# Altium integrated library AD Analog Multiplier Divider.IntLib: 63 symbols (part 1 of 2)
Pins are listed as number, name and electrical type; pins without a type are passive.

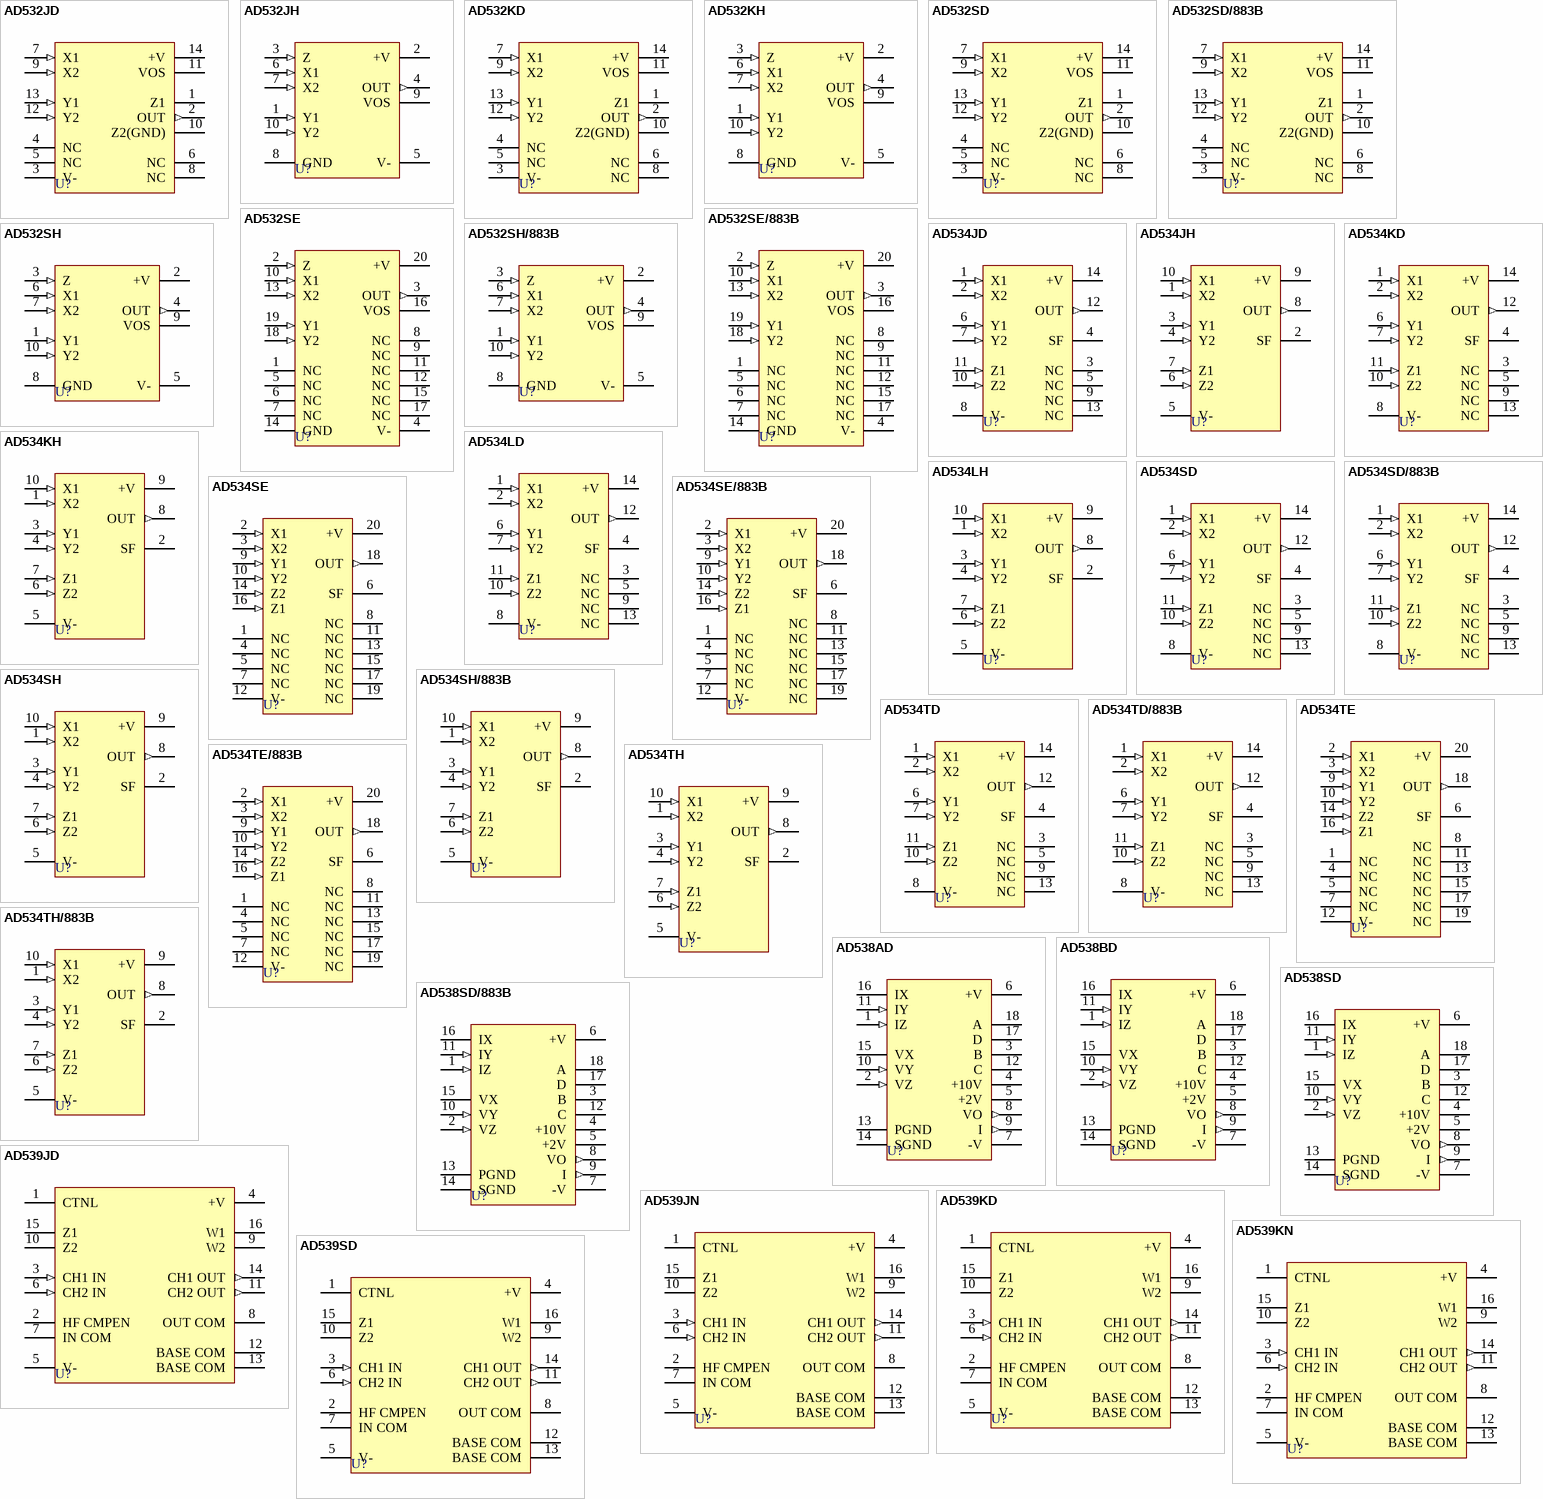
[diagram p0: symbols AD532JD to AD539SD]

## AD532JD
designator U?
Internally Trimmed IC Multiplier; Note: Pins 4, 5, 6 and 8 are not connected; Published: 8-Jun-2000; LatestRevisionDate: 04-Mar-2005; LatestRevisionNote: Stylized 3D Model Added.; DatasheetVersion: REV.A 1996; PackageReference: D-14; Publisher: Altium Limited; PackageDescription: DIP; 14 Leads; Row Spacing 7.62 mm; Pitch 2.54 mm; ComponentLink1Description: Manufacturer Link; ComponentLink1URL: http://www.analog.com/en/prod/0%2C2877%2CAD532%2C00.html; ComponentLink2Description: Datasheet; ComponentLink2URL: http://www.analog.com/UploadedFiles/Data_Sheets/417213471AD532_c.pdf
footprint D-14 (DIP; 14 Leads; Row Spacing 7.62 mm; Pitch 2.54 mm)
3D model D-14 (DIP; 14 Leads; Row Spacing 7.62 mm; Pitch 2.54 mm)
pins: 1 Z1, 2 OUT (out), 3 V- (power), 4 NC, 5 NC, 6 NC, 7 X1 (in), 8 NC, 9 X2 (in), 10 Z2(GND), 11 VOS, 12 Y2 (in), 13 Y1 (in), 14 +V (power)

## AD532JH
designator U?
Internally Trimmed IC Multiplier; Published: 8-Jun-2000; LatestRevisionDate: 17-Jul-2002; LatestRevisionNote: Re-released for DXP Platform.; DatasheetVersion: REV.A 1996; PackageReference: H-10A; Publisher: Altium Limited; PackageDescription: Can; 10 Leads; Pin Circle Dia. 5.84 mm; Lead Dia. 0.53 mm (max); Code_JEDEC: TO-100; ComponentLink1Description: Manufacturer Link; ComponentLink1URL: http://www.analog.com/en/prod/0%2C2877%2CAD532%2C00.html; ComponentLink2Description: Datasheet; ComponentLink2URL: http://www.analog.com/UploadedFiles/Data_Sheets/417213471AD532_c.pdf
footprint H-10A (Can; 10 Leads; Pin Circle Dia. 5.84 mm; Lead Dia. 0.53 mm (max))
pins: 1 Y1 (in), 2 +V (power), 3 Z (in), 4 OUT (out), 5 V- (power), 6 X1 (in), 7 X2 (in), 8 GND (power), 9 VOS, 10 Y2 (in)

## AD532KD
designator U?
Internally Trimmed IC Multiplier; Note: Pins 4, 5, 6 and 8 are not connected; Published: 8-Jun-2000; LatestRevisionDate: 04-Mar-2005; LatestRevisionNote: Stylized 3D Model Added.; DatasheetVersion: REV.A 1996; PackageReference: D-14; Publisher: Altium Limited; PackageDescription: DIP; 14 Leads; Row Spacing 7.62 mm; Pitch 2.54 mm; ComponentLink1Description: Manufacturer Link; ComponentLink1URL: http://www.analog.com/en/prod/0%2C2877%2CAD532%2C00.html; ComponentLink2Description: Datasheet; ComponentLink2URL: http://www.analog.com/UploadedFiles/Data_Sheets/417213471AD532_c.pdf
footprint D-14 (DIP; 14 Leads; Row Spacing 7.62 mm; Pitch 2.54 mm)
3D model D-14 (DIP; 14 Leads; Row Spacing 7.62 mm; Pitch 2.54 mm)
pins: 1 Z1, 2 OUT (out), 3 V- (power), 4 NC, 5 NC, 6 NC, 7 X1 (in), 8 NC, 9 X2 (in), 10 Z2(GND), 11 VOS, 12 Y2 (in), 13 Y1 (in), 14 +V (power)

## AD532KH
designator U?
Internally Trimmed IC Multiplier; Published: 8-Jun-2000; LatestRevisionDate: 17-Jul-2002; LatestRevisionNote: Re-released for DXP Platform.; DatasheetVersion: REV.A 1996; PackageReference: H-10A; Publisher: Altium Limited; PackageDescription: Can; 10 Leads; Pin Circle Dia. 5.84 mm; Lead Dia. 0.53 mm (max); Code_JEDEC: TO-100; ComponentLink1Description: Manufacturer Link; ComponentLink1URL: http://www.analog.com/en/prod/0%2C2877%2CAD532%2C00.html; ComponentLink2Description: Datasheet; ComponentLink2URL: http://www.analog.com/UploadedFiles/Data_Sheets/417213471AD532_c.pdf
footprint H-10A (Can; 10 Leads; Pin Circle Dia. 5.84 mm; Lead Dia. 0.53 mm (max))
pins: 1 Y1 (in), 2 +V (power), 3 Z (in), 4 OUT (out), 5 V- (power), 6 X1 (in), 7 X2 (in), 8 GND (power), 9 VOS, 10 Y2 (in)

## AD532SD
designator U?
Internally Trimmed IC Multiplier; Note: Pins 4, 5, 6 and 8 are not connected; Published: 8-Jun-2000; LatestRevisionDate: 04-Mar-2005; LatestRevisionNote: Stylized 3D Model Added.; DatasheetVersion: REV.A 1996; PackageReference: D-14; Publisher: Altium Limited; PackageDescription: DIP; 14 Leads; Row Spacing 7.62 mm; Pitch 2.54 mm; ComponentLink1Description: Manufacturer Link; ComponentLink1URL: http://www.analog.com/en/prod/0%2C2877%2CAD532%2C00.html; ComponentLink2Description: Datasheet; ComponentLink2URL: http://www.analog.com/UploadedFiles/Data_Sheets/417213471AD532_c.pdf
footprint D-14 (DIP; 14 Leads; Row Spacing 7.62 mm; Pitch 2.54 mm)
3D model D-14 (DIP; 14 Leads; Row Spacing 7.62 mm; Pitch 2.54 mm)
pins: 1 Z1, 2 OUT (out), 3 V- (power), 4 NC, 5 NC, 6 NC, 7 X1 (in), 8 NC, 9 X2 (in), 10 Z2(GND), 11 VOS, 12 Y2 (in), 13 Y1 (in), 14 +V (power)

## AD532SD/883B
designator U?
Internally Trimmed IC Multiplier; Note: Pins 4, 5, 6 and 8 are not connected; Published: 8-Jun-2000; LatestRevisionDate: 04-Mar-2005; LatestRevisionNote: Stylized 3D Model Added.; DatasheetVersion: REV.A 1996; PackageReference: D-14; Publisher: Altium Limited; PackageDescription: DIP; 14 Leads; Row Spacing 7.62 mm; Pitch 2.54 mm; ComponentLink1Description: Manufacturer Link; ComponentLink1URL: http://www.analog.com/en/prod/0%2C2877%2CAD532%2C00.html; ComponentLink2Description: Datasheet; ComponentLink2URL: http://www.analog.com/UploadedFiles/Data_Sheets/417213471AD532_c.pdf
footprint D-14 (DIP; 14 Leads; Row Spacing 7.62 mm; Pitch 2.54 mm)
3D model D-14 (DIP; 14 Leads; Row Spacing 7.62 mm; Pitch 2.54 mm)
pins: 1 Z1, 2 OUT (out), 3 V- (power), 4 NC, 5 NC, 6 NC, 7 X1 (in), 8 NC, 9 X2 (in), 10 Z2(GND), 11 VOS, 12 Y2 (in), 13 Y1 (in), 14 +V (power)

## AD532SE
designator U?
Internally Trimmed IC Multiplier; Note: Pins 1, 5, 6, 7, 8, 9, 11, 12, 15 and 17 are not connected; Published: 8-Jun-2000; LatestRevisionDate: 17-Jul-2002; LatestRevisionNote: Re-released for DXP Platform.; DatasheetVersion: REV.A 1996; PackageReference: E-20A; Publisher: Altium Limited; PackageDescription: Leadless Chip Carrier; 20 Terminals; Body 8.9 x 8.9 mm; ComponentLink1Description: Manufacturer Link; ComponentLink1URL: http://www.analog.com/en/prod/0%2C2877%2CAD532%2C00.html; ComponentLink2Description: Datasheet; ComponentLink2URL: http://www.analog.com/UploadedFiles/Data_Sheets/417213471AD532_c.pdf
footprint E-20A (Leadless Chip Carrier; 20 Terminals; Body 8.9 x 8.9 mm)
pins: 1 NC, 2 Z (in), 3 OUT (out), 4 V- (power), 5 NC, 6 NC, 7 NC, 8 NC, 9 NC, 10 X1 (in), 11 NC, 12 NC, 13 X2 (in), 14 GND (power), 15 NC, 16 VOS, 17 NC, 18 Y2 (in), 19 Y1 (in), 20 +V (power)

## AD532SE/883B
designator U?
Internally Trimmed IC Multiplier; Note: Pins 1, 5, 6, 7, 8, 9, 11, 12, 15 and 17 are not connected; Published: 8-Jun-2000; LatestRevisionDate: 17-Jul-2002; LatestRevisionNote: Re-released for DXP Platform.; DatasheetVersion: REV.A 1996; PackageReference: E-20A; Publisher: Altium Limited; PackageDescription: Leadless Chip Carrier; 20 Terminals; Body 8.9 x 8.9 mm; ComponentLink1Description: Manufacturer Link; ComponentLink1URL: http://www.analog.com/en/prod/0%2C2877%2CAD532%2C00.html; ComponentLink2Description: Datasheet; ComponentLink2URL: http://www.analog.com/UploadedFiles/Data_Sheets/417213471AD532_c.pdf
footprint E-20A (Leadless Chip Carrier; 20 Terminals; Body 8.9 x 8.9 mm)
pins: 1 NC, 2 Z (in), 3 OUT (out), 4 V- (power), 5 NC, 6 NC, 7 NC, 8 NC, 9 NC, 10 X1 (in), 11 NC, 12 NC, 13 X2 (in), 14 GND (power), 15 NC, 16 VOS, 17 NC, 18 Y2 (in), 19 Y1 (in), 20 +V (power)

## AD532SH
designator U?
Internally Trimmed IC Multiplier; Published: 8-Jun-2000; LatestRevisionDate: 17-Jul-2002; LatestRevisionNote: Re-released for DXP Platform.; DatasheetVersion: REV.A 1996; PackageReference: H-10A; Publisher: Altium Limited; PackageDescription: Can; 10 Leads; Pin Circle Dia. 5.84 mm; Lead Dia. 0.53 mm (max); Code_JEDEC: TO-100; ComponentLink1Description: Manufacturer Link; ComponentLink1URL: http://www.analog.com/en/prod/0%2C2877%2CAD532%2C00.html; ComponentLink2Description: Datasheet; ComponentLink2URL: http://www.analog.com/UploadedFiles/Data_Sheets/417213471AD532_c.pdf
footprint H-10A (Can; 10 Leads; Pin Circle Dia. 5.84 mm; Lead Dia. 0.53 mm (max))
pins: 1 Y1 (in), 2 +V (power), 3 Z (in), 4 OUT (out), 5 V- (power), 6 X1 (in), 7 X2 (in), 8 GND (power), 9 VOS, 10 Y2 (in)

## AD532SH/883B
designator U?
Internally Trimmed IC Multiplier; Published: 8-Jun-2000; LatestRevisionDate: 17-Jul-2002; LatestRevisionNote: Re-released for DXP Platform.; DatasheetVersion: REV.A 1996; PackageReference: H-10A; Publisher: Altium Limited; PackageDescription: Can; 10 Leads; Pin Circle Dia. 5.84 mm; Lead Dia. 0.53 mm (max); Code_JEDEC: TO-100; ComponentLink1Description: Manufacturer Link; ComponentLink1URL: http://www.analog.com/en/prod/0%2C2877%2CAD532%2C00.html; ComponentLink2Description: Datasheet; ComponentLink2URL: http://www.analog.com/UploadedFiles/Data_Sheets/417213471AD532_c.pdf
footprint H-10A (Can; 10 Leads; Pin Circle Dia. 5.84 mm; Lead Dia. 0.53 mm (max))
pins: 1 Y1 (in), 2 +V (power), 3 Z (in), 4 OUT (out), 5 V- (power), 6 X1 (in), 7 X2 (in), 8 GND (power), 9 VOS, 10 Y2 (in)

## AD534JD
designator U?
Internally Trimmed Precision IC Multiplier; Note: Pins 3, 5, 9 and 13 are not connected; Published: 8-Jun-2000; LatestRevisionDate: 04-Mar-2005; LatestRevisionNote: Stylized 3D Model Added.; DatasheetVersion: REV.A 1998; PackageVersion: revA; PackageReference: D-14_A; Publisher: Altium Limited; PackageDescription: DIP; 14 Leads; Row Spacing 7.62 mm; Pitch 2.54 mm; ComponentLink1Description: Manufacturer Link; ComponentLink1URL: http://www.analog.com/en/prod/0%2C2877%2CAD534%2C00.html; ComponentLink2Description: Datasheet; ComponentLink2URL: http://www.analog.com/UploadedFiles/Data_Sheets/142828039AD534_b.pdf
footprint D-14_A (DIP; 14 Leads; Row Spacing 7.62 mm; Pitch 2.54 mm)
3D model D-14A (DIP; 14 Leads; Row Spacing 7.62 mm; Pitch 2.54 mm)
pins: 1 X1 (in), 2 X2 (in), 3 NC, 4 SF, 5 NC, 6 Y1 (in), 7 Y2 (in), 8 V- (power), 9 NC, 10 Z2 (in), 11 Z1 (in), 12 OUT (out), 13 NC, 14 +V (power)

## AD534JH
designator U?
Internally Trimmed Precision IC Multiplier; Published: 8-Jun-2000; LatestRevisionDate: 17-Jul-2002; LatestRevisionNote: Re-released for DXP Platform.; DatasheetVersion: REV.A 1998; PackageReference: H-10A; Publisher: Altium Limited; PackageDescription: Can; 10 Leads; Pin Circle Dia. 5.84 mm; Lead Dia. 0.53 mm (max); Code_JEDEC: TO-100; ComponentLink1Description: Manufacturer Link; ComponentLink1URL: http://www.analog.com/en/prod/0%2C2877%2CAD534%2C00.html; ComponentLink2Description: Datasheet; ComponentLink2URL: http://www.analog.com/UploadedFiles/Data_Sheets/142828039AD534_b.pdf
footprint H-10A (Can; 10 Leads; Pin Circle Dia. 5.84 mm; Lead Dia. 0.53 mm (max))
pins: 1 X2 (in), 2 SF, 3 Y1 (in), 4 Y2 (in), 5 V- (power), 6 Z2 (in), 7 Z1 (in), 8 OUT (out), 9 +V (power), 10 X1 (in)

## AD534KD
designator U?
Internally Trimmed Precision IC Multiplier; Note: Pins 3, 5, 9 and 13 are not connected; Published: 8-Jun-2000; LatestRevisionDate: 04-Mar-2005; LatestRevisionNote: Stylized 3D Model Added.; DatasheetVersion: REV.A 1998; PackageVersion: revA; PackageReference: D-14_A; Publisher: Altium Limited; PackageDescription: DIP; 14 Leads; Row Spacing 7.62 mm; Pitch 2.54 mm; ComponentLink1Description: Manufacturer Link; ComponentLink1URL: http://www.analog.com/en/prod/0%2C2877%2CAD534%2C00.html; ComponentLink2Description: Datasheet; ComponentLink2URL: http://www.analog.com/UploadedFiles/Data_Sheets/142828039AD534_b.pdf
footprint D-14_A (DIP; 14 Leads; Row Spacing 7.62 mm; Pitch 2.54 mm)
3D model D-14A (DIP; 14 Leads; Row Spacing 7.62 mm; Pitch 2.54 mm)
pins: 1 X1 (in), 2 X2 (in), 3 NC, 4 SF, 5 NC, 6 Y1 (in), 7 Y2 (in), 8 V- (power), 9 NC, 10 Z2 (in), 11 Z1 (in), 12 OUT (out), 13 NC, 14 +V (power)

## AD534KH
designator U?
Internally Trimmed Precision IC Multiplier; Published: 8-Jun-2000; LatestRevisionDate: 17-Jul-2002; LatestRevisionNote: Re-released for DXP Platform.; DatasheetVersion: REV.A 1998; PackageReference: H-10A; Publisher: Altium Limited; PackageDescription: Can; 10 Leads; Pin Circle Dia. 5.84 mm; Lead Dia. 0.53 mm (max); Code_JEDEC: TO-100; ComponentLink1Description: Manufacturer Link; ComponentLink1URL: http://www.analog.com/en/prod/0%2C2877%2CAD534%2C00.html; ComponentLink2Description: Datasheet; ComponentLink2URL: http://www.analog.com/UploadedFiles/Data_Sheets/142828039AD534_b.pdf
footprint H-10A (Can; 10 Leads; Pin Circle Dia. 5.84 mm; Lead Dia. 0.53 mm (max))
pins: 1 X2 (in), 2 SF, 3 Y1 (in), 4 Y2 (in), 5 V- (power), 6 Z2 (in), 7 Z1 (in), 8 OUT (out), 9 +V (power), 10 X1 (in)

## AD534LD
designator U?
Internally Trimmed Precision IC Multiplier; Note: Pins 3, 5, 9 and 13 are not connected; Published: 8-Jun-2000; LatestRevisionDate: 04-Mar-2005; LatestRevisionNote: Stylized 3D Model Added.; DatasheetVersion: REV.A 1998; PackageVersion: revA; PackageReference: D-14_A; Publisher: Altium Limited; PackageDescription: DIP; 14 Leads; Row Spacing 7.62 mm; Pitch 2.54 mm; ComponentLink1Description: Manufacturer Link; ComponentLink1URL: http://www.analog.com/en/prod/0%2C2877%2CAD534%2C00.html; ComponentLink2Description: Datasheet; ComponentLink2URL: http://www.analog.com/UploadedFiles/Data_Sheets/142828039AD534_b.pdf
footprint D-14_A (DIP; 14 Leads; Row Spacing 7.62 mm; Pitch 2.54 mm)
3D model D-14A (DIP; 14 Leads; Row Spacing 7.62 mm; Pitch 2.54 mm)
pins: 1 X1 (in), 2 X2 (in), 3 NC, 4 SF, 5 NC, 6 Y1 (in), 7 Y2 (in), 8 V- (power), 9 NC, 10 Z2 (in), 11 Z1 (in), 12 OUT (out), 13 NC, 14 +V (power)

## AD534LH
designator U?
Internally Trimmed Precision IC Multiplier; Published: 8-Jun-2000; LatestRevisionDate: 17-Jul-2002; LatestRevisionNote: Re-released for DXP Platform.; DatasheetVersion: REV.A 1998; PackageReference: H-10A; Publisher: Altium Limited; PackageDescription: Can; 10 Leads; Pin Circle Dia. 5.84 mm; Lead Dia. 0.53 mm (max); Code_JEDEC: TO-100; ComponentLink1Description: Manufacturer Link; ComponentLink1URL: http://www.analog.com/en/prod/0%2C2877%2CAD534%2C00.html; ComponentLink2Description: Datasheet; ComponentLink2URL: http://www.analog.com/UploadedFiles/Data_Sheets/142828039AD534_b.pdf
footprint H-10A (Can; 10 Leads; Pin Circle Dia. 5.84 mm; Lead Dia. 0.53 mm (max))
pins: 1 X2 (in), 2 SF, 3 Y1 (in), 4 Y2 (in), 5 V- (power), 6 Z2 (in), 7 Z1 (in), 8 OUT (out), 9 +V (power), 10 X1 (in)

## AD534SD
designator U?
Internally Trimmed Precision IC Multiplier; Note: Pins 3, 5, 9 and 13 are not connected; Published: 8-Jun-2000; LatestRevisionDate: 04-Mar-2005; LatestRevisionNote: Stylized 3D Model Added.; DatasheetVersion: REV.A 1998; PackageVersion: revA; PackageReference: D-14_A; Publisher: Altium Limited; PackageDescription: DIP; 14 Leads; Row Spacing 7.62 mm; Pitch 2.54 mm; ComponentLink1Description: Manufacturer Link; ComponentLink1URL: http://www.analog.com/en/prod/0%2C2877%2CAD534%2C00.html; ComponentLink2Description: Datasheet; ComponentLink2URL: http://www.analog.com/UploadedFiles/Data_Sheets/142828039AD534_b.pdf
footprint D-14_A (DIP; 14 Leads; Row Spacing 7.62 mm; Pitch 2.54 mm)
3D model D-14A (DIP; 14 Leads; Row Spacing 7.62 mm; Pitch 2.54 mm)
pins: 1 X1 (in), 2 X2 (in), 3 NC, 4 SF, 5 NC, 6 Y1 (in), 7 Y2 (in), 8 V- (power), 9 NC, 10 Z2 (in), 11 Z1 (in), 12 OUT (out), 13 NC, 14 +V (power)

## AD534SD/883B
designator U?
Internally Trimmed Precision IC Multiplier; Note: Pins 3, 5, 9 and 13 are not connected; Published: 8-Jun-2000; LatestRevisionDate: 04-Mar-2005; LatestRevisionNote: Stylized 3D Model Added.; DatasheetVersion: REV.A 1998; PackageVersion: revA; PackageReference: D-14_A; Publisher: Altium Limited; PackageDescription: DIP; 14 Leads; Row Spacing 7.62 mm; Pitch 2.54 mm; ComponentLink1Description: Manufacturer Link; ComponentLink1URL: http://www.analog.com/en/prod/0%2C2877%2CAD534%2C00.html; ComponentLink2Description: Datasheet; ComponentLink2URL: http://www.analog.com/UploadedFiles/Data_Sheets/142828039AD534_b.pdf
footprint D-14_A (DIP; 14 Leads; Row Spacing 7.62 mm; Pitch 2.54 mm)
3D model D-14A (DIP; 14 Leads; Row Spacing 7.62 mm; Pitch 2.54 mm)
pins: 1 X1 (in), 2 X2 (in), 3 NC, 4 SF, 5 NC, 6 Y1 (in), 7 Y2 (in), 8 V- (power), 9 NC, 10 Z2 (in), 11 Z1 (in), 12 OUT (out), 13 NC, 14 +V (power)

## AD534SE
designator U?
Internally Trimmed Precision IC Multiplier; Note: Pins 1, 4, 5, 7, 8, 11, 13, 15, 17 and 19 are not connected; Published: 8-Jun-2000; LatestRevisionDate: 17-Jul-2002; LatestRevisionNote: Re-released for DXP Platform.; DatasheetVersion: REV.A 1998; PackageReference: E-20A; Publisher: Altium Limited; PackageDescription: Leadless Chip Carrier; 20 Terminals; Body 8.9 x 8.9 mm; ComponentLink1Description: Manufacturer Link; ComponentLink1URL: http://www.analog.com/en/prod/0%2C2877%2CAD534%2C00.html; ComponentLink2Description: Datasheet; ComponentLink2URL: http://www.analog.com/UploadedFiles/Data_Sheets/142828039AD534_b.pdf
footprint E-20A (Leadless Chip Carrier; 20 Terminals; Body 8.9 x 8.9 mm)
pins: 1 NC, 2 X1 (in), 3 X2 (in), 4 NC, 5 NC, 6 SF, 7 NC, 8 NC, 9 Y1 (in), 10 Y2 (in), 11 NC, 12 V- (power), 13 NC, 14 Z2 (in), 15 NC, 16 Z1 (in), 17 NC, 18 OUT (out), 19 NC, 20 +V (power)

## AD534SE/883B
designator U?
Internally Trimmed Precision IC Multiplier; Note: Pins 1, 4, 5, 7, 8, 11, 13, 15, 17 and 19 are not connected; Published: 8-Jun-2000; LatestRevisionDate: 17-Jul-2002; LatestRevisionNote: Re-released for DXP Platform.; DatasheetVersion: REV.A 1998; PackageReference: E-20A; Publisher: Altium Limited; PackageDescription: Leadless Chip Carrier; 20 Terminals; Body 8.9 x 8.9 mm; ComponentLink1Description: Manufacturer Link; ComponentLink1URL: http://www.analog.com/en/prod/0%2C2877%2CAD534%2C00.html; ComponentLink2Description: Datasheet; ComponentLink2URL: http://www.analog.com/UploadedFiles/Data_Sheets/142828039AD534_b.pdf
footprint E-20A (Leadless Chip Carrier; 20 Terminals; Body 8.9 x 8.9 mm)
pins: 1 NC, 2 X1 (in), 3 X2 (in), 4 NC, 5 NC, 6 SF, 7 NC, 8 NC, 9 Y1 (in), 10 Y2 (in), 11 NC, 12 V- (power), 13 NC, 14 Z2 (in), 15 NC, 16 Z1 (in), 17 NC, 18 OUT (out), 19 NC, 20 +V (power)

## AD534SH
designator U?
Internally Trimmed Precision IC Multiplier; Published: 8-Jun-2000; LatestRevisionDate: 17-Jul-2002; LatestRevisionNote: Re-released for DXP Platform.; DatasheetVersion: REV.A 1998; PackageReference: H-10A; Publisher: Altium Limited; PackageDescription: Can; 10 Leads; Pin Circle Dia. 5.84 mm; Lead Dia. 0.53 mm (max); Code_JEDEC: TO-100; ComponentLink1Description: Manufacturer Link; ComponentLink1URL: http://www.analog.com/en/prod/0%2C2877%2CAD534%2C00.html; ComponentLink2Description: Datasheet; ComponentLink2URL: http://www.analog.com/UploadedFiles/Data_Sheets/142828039AD534_b.pdf
footprint H-10A (Can; 10 Leads; Pin Circle Dia. 5.84 mm; Lead Dia. 0.53 mm (max))
pins: 1 X2 (in), 2 SF, 3 Y1 (in), 4 Y2 (in), 5 V- (power), 6 Z2 (in), 7 Z1 (in), 8 OUT (out), 9 +V (power), 10 X1 (in)

## AD534SH/883B
designator U?
Internally Trimmed Precision IC Multiplier; Published: 8-Jun-2000; LatestRevisionDate: 17-Jul-2002; LatestRevisionNote: Re-released for DXP Platform.; DatasheetVersion: REV.A 1998; PackageReference: H-10A; Publisher: Altium Limited; PackageDescription: Can; 10 Leads; Pin Circle Dia. 5.84 mm; Lead Dia. 0.53 mm (max); Code_JEDEC: TO-100; ComponentLink1Description: Manufacturer Link; ComponentLink1URL: http://www.analog.com/en/prod/0%2C2877%2CAD534%2C00.html; ComponentLink2Description: Datasheet; ComponentLink2URL: http://www.analog.com/UploadedFiles/Data_Sheets/142828039AD534_b.pdf
footprint H-10A (Can; 10 Leads; Pin Circle Dia. 5.84 mm; Lead Dia. 0.53 mm (max))
pins: 1 X2 (in), 2 SF, 3 Y1 (in), 4 Y2 (in), 5 V- (power), 6 Z2 (in), 7 Z1 (in), 8 OUT (out), 9 +V (power), 10 X1 (in)

## AD534TD
designator U?
Internally Trimmed Precision IC Multiplier; Note: Pins 3, 5, 9 and 13 are not connected; Published: 8-Jun-2000; LatestRevisionDate: 04-Mar-2005; LatestRevisionNote: Stylized 3D Model Added.; DatasheetVersion: REV.A 1998; PackageVersion: revA; PackageReference: D-14_A; Publisher: Altium Limited; PackageDescription: DIP; 14 Leads; Row Spacing 7.62 mm; Pitch 2.54 mm; ComponentLink1Description: Manufacturer Link; ComponentLink1URL: http://www.analog.com/en/prod/0%2C2877%2CAD534%2C00.html; ComponentLink2Description: Datasheet; ComponentLink2URL: http://www.analog.com/UploadedFiles/Data_Sheets/142828039AD534_b.pdf
footprint D-14_A (DIP; 14 Leads; Row Spacing 7.62 mm; Pitch 2.54 mm)
3D model D-14A (DIP; 14 Leads; Row Spacing 7.62 mm; Pitch 2.54 mm)
pins: 1 X1 (in), 2 X2 (in), 3 NC, 4 SF, 5 NC, 6 Y1 (in), 7 Y2 (in), 8 V- (power), 9 NC, 10 Z2 (in), 11 Z1 (in), 12 OUT (out), 13 NC, 14 +V (power)

## AD534TD/883B
designator U?
Internally Trimmed Precision IC Multiplier; Note: Pins 3, 5, 9 and 13 are not connected; Published: 8-Jun-2000; LatestRevisionDate: 04-Mar-2005; LatestRevisionNote: Stylized 3D Model Added.; DatasheetVersion: REV.A 1998; PackageVersion: revA; PackageReference: D-14_A; Publisher: Altium Limited; PackageDescription: DIP; 14 Leads; Row Spacing 7.62 mm; Pitch 2.54 mm; ComponentLink1Description: Manufacturer Link; ComponentLink1URL: http://www.analog.com/en/prod/0%2C2877%2CAD534%2C00.html; ComponentLink2Description: Datasheet; ComponentLink2URL: http://www.analog.com/UploadedFiles/Data_Sheets/142828039AD534_b.pdf
footprint D-14_A (DIP; 14 Leads; Row Spacing 7.62 mm; Pitch 2.54 mm)
3D model D-14A (DIP; 14 Leads; Row Spacing 7.62 mm; Pitch 2.54 mm)
pins: 1 X1 (in), 2 X2 (in), 3 NC, 4 SF, 5 NC, 6 Y1 (in), 7 Y2 (in), 8 V- (power), 9 NC, 10 Z2 (in), 11 Z1 (in), 12 OUT (out), 13 NC, 14 +V (power)

## AD534TE
designator U?
Internally Trimmed Precision IC Multiplier; Note: Pins 1, 4, 5, 7, 8, 11, 13, 15, 17 and 19 are not connected; Published: 8-Jun-2000; LatestRevisionDate: 17-Jul-2002; LatestRevisionNote: Re-released for DXP Platform.; DatasheetVersion: REV.A 1998; PackageReference: E-20A; Publisher: Altium Limited; PackageDescription: Leadless Chip Carrier; 20 Terminals; Body 8.9 x 8.9 mm; ComponentLink1Description: Manufacturer Link; ComponentLink1URL: http://www.analog.com/en/prod/0%2C2877%2CAD534%2C00.html; ComponentLink2Description: Datasheet; ComponentLink2URL: http://www.analog.com/UploadedFiles/Data_Sheets/142828039AD534_b.pdf
footprint E-20A (Leadless Chip Carrier; 20 Terminals; Body 8.9 x 8.9 mm)
pins: 1 NC, 2 X1 (in), 3 X2 (in), 4 NC, 5 NC, 6 SF, 7 NC, 8 NC, 9 Y1 (in), 10 Y2 (in), 11 NC, 12 V- (power), 13 NC, 14 Z2 (in), 15 NC, 16 Z1 (in), 17 NC, 18 OUT (out), 19 NC, 20 +V (power)

## AD534TE/883B
designator U?
Internally Trimmed Precision IC Multiplier; Note: Pins 1, 4, 5, 7, 8, 11, 13, 15, 17 and 19 are not connected; Published: 8-Jun-2000; LatestRevisionDate: 17-Jul-2002; LatestRevisionNote: Re-released for DXP Platform.; DatasheetVersion: REV.A 1998; PackageReference: E-20A; Publisher: Altium Limited; PackageDescription: Leadless Chip Carrier; 20 Terminals; Body 8.9 x 8.9 mm; ComponentLink1Description: Manufacturer Link; ComponentLink1URL: http://www.analog.com/en/prod/0%2C2877%2CAD534%2C00.html; ComponentLink2Description: Datasheet; ComponentLink2URL: http://www.analog.com/UploadedFiles/Data_Sheets/142828039AD534_b.pdf
footprint E-20A (Leadless Chip Carrier; 20 Terminals; Body 8.9 x 8.9 mm)
pins: 1 NC, 2 X1 (in), 3 X2 (in), 4 NC, 5 NC, 6 SF, 7 NC, 8 NC, 9 Y1 (in), 10 Y2 (in), 11 NC, 12 V- (power), 13 NC, 14 Z2 (in), 15 NC, 16 Z1 (in), 17 NC, 18 OUT (out), 19 NC, 20 +V (power)

## AD534TH
designator U?
Internally Trimmed Precision IC Multiplier; Published: 8-Jun-2000; LatestRevisionDate: 17-Jul-2002; LatestRevisionNote: Re-released for DXP Platform.; DatasheetVersion: REV.A 1998; PackageReference: H-10A; Publisher: Altium Limited; PackageDescription: Can; 10 Leads; Pin Circle Dia. 5.84 mm; Lead Dia. 0.53 mm (max); Code_JEDEC: TO-100; ComponentLink1Description: Manufacturer Link; ComponentLink1URL: http://www.analog.com/en/prod/0%2C2877%2CAD534%2C00.html; ComponentLink2Description: Datasheet; ComponentLink2URL: http://www.analog.com/UploadedFiles/Data_Sheets/142828039AD534_b.pdf
footprint H-10A (Can; 10 Leads; Pin Circle Dia. 5.84 mm; Lead Dia. 0.53 mm (max))
pins: 1 X2 (in), 2 SF, 3 Y1 (in), 4 Y2 (in), 5 V- (power), 6 Z2 (in), 7 Z1 (in), 8 OUT (out), 9 +V (power), 10 X1 (in)

## AD534TH/883B
designator U?
Internally Trimmed Precision IC Multiplier; Published: 8-Jun-2000; LatestRevisionDate: 17-Jul-2002; LatestRevisionNote: Re-released for DXP Platform.; DatasheetVersion: REV.A 1998; PackageReference: H-10A; Publisher: Altium Limited; PackageDescription: Can; 10 Leads; Pin Circle Dia. 5.84 mm; Lead Dia. 0.53 mm (max); Code_JEDEC: TO-100; ComponentLink1Description: Manufacturer Link; ComponentLink1URL: http://www.analog.com/en/prod/0%2C2877%2CAD534%2C00.html; ComponentLink2Description: Datasheet; ComponentLink2URL: http://www.analog.com/UploadedFiles/Data_Sheets/142828039AD534_b.pdf
footprint H-10A (Can; 10 Leads; Pin Circle Dia. 5.84 mm; Lead Dia. 0.53 mm (max))
pins: 1 X2 (in), 2 SF, 3 Y1 (in), 4 Y2 (in), 5 V- (power), 6 Z2 (in), 7 Z1 (in), 8 OUT (out), 9 +V (power), 10 X1 (in)

## AD538AD
designator U?
Real-Time Analog Computational Unit (ACU); Published: 8-Jun-2000; LatestRevisionDate: 04-Mar-2005; LatestRevisionNote: Stylized 3D Model Added.; DatasheetVersion: REV.A 1992; PackageReference: D-18; Publisher: Altium Limited; PackageDescription: DIP; 18 Leads; Row Spacing 7.62 mm; Pitch 2.54 mm; ComponentLink1Description: Manufacturer Link; ComponentLink1URL: http://www.analog.com/en/prod/0%2C2877%2CAD538%2C00.html; ComponentLink2Description: Datasheet; ComponentLink2URL: http://www.analog.com/UploadedFiles/Data_Sheets/737468486AD538_c.pdf
footprint D-18 (DIP; 18 Leads; Row Spacing 7.62 mm; Pitch 2.54 mm)
3D model D-18 (DIP; 18 Leads; Row Spacing 7.62 mm; Pitch 2.54 mm)
pins: 1 IZ (in), 2 VZ (in), 3 B, 4 +10V, 5 +2V, 6 +V (power), 7 -V (power), 8 VO (out), 9 I (out), 10 VY (in), 11 IY (in), 12 C, 13 PGND (power), 14 SGND (power), 15 VX, 16 IX, 17 D, 18 A

## AD538BD
designator U?
Real-Time Analog Computational Unit (ACU); Published: 8-Jun-2000; LatestRevisionDate: 04-Mar-2005; LatestRevisionNote: Stylized 3D Model Added.; DatasheetVersion: REV.A 1998; PackageVersion: revA; PackageReference: D-18_A; Publisher: Altium Limited; PackageDescription: DIP; 18 Leads; Row Spacing 7.62 mm; Pitch 2.54 mm; ComponentLink1Description: Manufacturer Link; ComponentLink1URL: http://www.analog.com/en/prod/0%2C2877%2CAD538%2C00.html; ComponentLink2Description: Datasheet; ComponentLink2URL: http://www.analog.com/UploadedFiles/Data_Sheets/737468486AD538_c.pdf
footprint D-18_A (DIP; 18 Leads; Row Spacing 7.62 mm; Pitch 2.54 mm)
3D model D-18A (DIP; 18 Leads; Row Spacing 7.62 mm; Pitch 2.54 mm)
pins: 1 IZ (in), 2 VZ (in), 3 B, 4 +10V, 5 +2V, 6 +V (power), 7 -V (power), 8 VO (out), 9 I (out), 10 VY (in), 11 IY (in), 12 C, 13 PGND (power), 14 SGND (power), 15 VX, 16 IX, 17 D, 18 A

## AD538SD
designator U?
Real-Time Analog Computational Unit (ACU); Published: 8-Jun-2000; LatestRevisionDate: 04-Mar-2005; LatestRevisionNote: Stylized 3D Model Added.; DatasheetVersion: REV.A 1998; PackageVersion: revA; PackageReference: D-18_A; Publisher: Altium Limited; PackageDescription: DIP; 18 Leads; Row Spacing 7.62 mm; Pitch 2.54 mm; ComponentLink1Description: Manufacturer Link; ComponentLink1URL: http://www.analog.com/en/prod/0%2C2877%2CAD538%2C00.html; ComponentLink2Description: Datasheet; ComponentLink2URL: http://www.analog.com/UploadedFiles/Data_Sheets/737468486AD538_c.pdf
footprint D-18_A (DIP; 18 Leads; Row Spacing 7.62 mm; Pitch 2.54 mm)
3D model D-18A (DIP; 18 Leads; Row Spacing 7.62 mm; Pitch 2.54 mm)
pins: 1 IZ (in), 2 VZ (in), 3 B, 4 +10V, 5 +2V, 6 +V (power), 7 -V (power), 8 VO (out), 9 I (out), 10 VY (in), 11 IY (in), 12 C, 13 PGND (power), 14 SGND (power), 15 VX, 16 IX, 17 D, 18 A

## AD538SD/883B
designator U?
Real-Time Analog Computational Unit (ACU); Published: 8-Jun-2000; LatestRevisionDate: 04-Mar-2005; LatestRevisionNote: Stylized 3D Model Added.; DatasheetVersion: REV.A 1998; PackageVersion: revA; PackageReference: D-18_A; Publisher: Altium Limited; PackageDescription: DIP; 18 Leads; Row Spacing 7.62 mm; Pitch 2.54 mm; ComponentLink1Description: Manufacturer Link; ComponentLink1URL: http://www.analog.com/en/prod/0%2C2877%2CAD538%2C00.html; ComponentLink2Description: Datasheet; ComponentLink2URL: http://www.analog.com/UploadedFiles/Data_Sheets/737468486AD538_c.pdf
footprint D-18_A (DIP; 18 Leads; Row Spacing 7.62 mm; Pitch 2.54 mm)
3D model D-18A (DIP; 18 Leads; Row Spacing 7.62 mm; Pitch 2.54 mm)
pins: 1 IZ (in), 2 VZ (in), 3 B, 4 +10V, 5 +2V, 6 +V (power), 7 -V (power), 8 VO (out), 9 I (out), 10 VY (in), 11 IY (in), 12 C, 13 PGND (power), 14 SGND (power), 15 VX, 16 IX, 17 D, 18 A

## AD539JD
designator U?
Wideband Dual-Channel Linear Multiplier/Divider; Published: 8-Jun-2000; LatestRevisionDate: 04-Mar-2005; LatestRevisionNote: Stylized 3D Model Added.; DatasheetVersion: REV.A 1998; PackageVersion: revB, 1996; PackageReference: D-16_B; Publisher: Altium Limited; PackageDescription: DIP; 16 Leads; Row Spacing 7.62 mm; Pitch 2.54 mm; ComponentLink1Description: Manufacturer Link; ComponentLink1URL: http://www.analog.com/en/prod/0%2C2877%2CAD539%2C00.html; ComponentLink2Description: Datasheet; ComponentLink2URL: http://www.analog.com/UploadedFiles/Data_Sheets/533994331AD539_a.pdf
footprint D-16_B (DIP; 16 Leads; Row Spacing 7.62 mm; Pitch 2.54 mm)
3D model D-16B (DIP; 16 Leads; Row Spacing 7.62 mm; Pitch 2.54 mm)
pins: 1 CTNL, 2 HF CMPEN, 3 CH1 IN (in), 4 +V (power), 5 V- (power), 6 CH2 IN (in), 7 IN COM, 8 OUT COM, 9 W2, 10 Z2, 11 CH2 OUT (out), 12 BASE COM, 13 BASE COM, 14 CH1 OUT (out), 15 Z1, 16 W1

## AD539JN
designator U?
Wideband Dual-Channel Linear Multiplier/Divider; Published: 8-Jun-2000; LatestRevisionDate: 04-Mar-2005; LatestRevisionNote: Stylized 3D Model Added.; DatasheetVersion: REV.A 1998; PackageVersion: revC; PackageReference: N-16_B; Publisher: Altium Limited; PackageDescription: DIP; 16 Leads; Row Spacing 7.62 mm; Pitch 2.54 mm; ComponentLink1Description: Manufacturer Link; ComponentLink1URL: http://www.analog.com/en/prod/0%2C2877%2CAD539%2C00.html; ComponentLink2Description: Datasheet; ComponentLink2URL: http://www.analog.com/UploadedFiles/Data_Sheets/533994331AD539_a.pdf
footprint N-16_B (DIP; 16 Leads; Row Spacing 7.62 mm; Pitch 2.54 mm)
3D model N-16B (DIP; 16 Leads; Row Spacing 7.62 mm; Pitch 2.54 mm)
pins: 1 CTNL, 2 HF CMPEN, 3 CH1 IN (in), 4 +V (power), 5 V- (power), 6 CH2 IN (in), 7 IN COM, 8 OUT COM, 9 W2, 10 Z2, 11 CH2 OUT (out), 12 BASE COM, 13 BASE COM, 14 CH1 OUT (out), 15 Z1, 16 W1

## AD539KD
designator U?
Wideband Dual-Channel Linear Multiplier/Divider; Published: 8-Jun-2000; LatestRevisionDate: 04-Mar-2005; LatestRevisionNote: Stylized 3D Model Added.; DatasheetVersion: REV.A 1998; PackageVersion: revB, 1996; PackageReference: D-16_B; Publisher: Altium Limited; PackageDescription: DIP; 16 Leads; Row Spacing 7.62 mm; Pitch 2.54 mm; ComponentLink1Description: Manufacturer Link; ComponentLink1URL: http://www.analog.com/en/prod/0%2C2877%2CAD539%2C00.html; ComponentLink2Description: Datasheet; ComponentLink2URL: http://www.analog.com/UploadedFiles/Data_Sheets/533994331AD539_a.pdf
footprint D-16_B (DIP; 16 Leads; Row Spacing 7.62 mm; Pitch 2.54 mm)
3D model D-16B (DIP; 16 Leads; Row Spacing 7.62 mm; Pitch 2.54 mm)
pins: 1 CTNL, 2 HF CMPEN, 3 CH1 IN (in), 4 +V (power), 5 V- (power), 6 CH2 IN (in), 7 IN COM, 8 OUT COM, 9 W2, 10 Z2, 11 CH2 OUT (out), 12 BASE COM, 13 BASE COM, 14 CH1 OUT (out), 15 Z1, 16 W1

## AD539KN
designator U?
Wideband Dual-Channel Linear Multiplier/Divider; Published: 8-Jun-2000; LatestRevisionDate: 04-Mar-2005; LatestRevisionNote: Stylized 3D Model Added.; DatasheetVersion: REV.A 1998; PackageVersion: revC; PackageReference: N-16_B; Publisher: Altium Limited; PackageDescription: DIP; 16 Leads; Row Spacing 7.62 mm; Pitch 2.54 mm; ComponentLink1Description: Manufacturer Link; ComponentLink1URL: http://www.analog.com/en/prod/0%2C2877%2CAD539%2C00.html; ComponentLink2Description: Datasheet; ComponentLink2URL: http://www.analog.com/UploadedFiles/Data_Sheets/533994331AD539_a.pdf
footprint N-16_B (DIP; 16 Leads; Row Spacing 7.62 mm; Pitch 2.54 mm)
3D model N-16B (DIP; 16 Leads; Row Spacing 7.62 mm; Pitch 2.54 mm)
pins: 1 CTNL, 2 HF CMPEN, 3 CH1 IN (in), 4 +V (power), 5 V- (power), 6 CH2 IN (in), 7 IN COM, 8 OUT COM, 9 W2, 10 Z2, 11 CH2 OUT (out), 12 BASE COM, 13 BASE COM, 14 CH1 OUT (out), 15 Z1, 16 W1

## AD539SD
designator U?
Wideband Dual-Channel Linear Multiplier/Divider; Published: 8-Jun-2000; LatestRevisionDate: 04-Mar-2005; LatestRevisionNote: Stylized 3D Model Added.; DatasheetVersion: REV.A 1998; PackageVersion: revB, 1996; PackageReference: D-16_B; Publisher: Altium Limited; PackageDescription: DIP; 16 Leads; Row Spacing 7.62 mm; Pitch 2.54 mm; ComponentLink1Description: Manufacturer Link; ComponentLink1URL: http://www.analog.com/en/prod/0%2C2877%2CAD539%2C00.html; ComponentLink2Description: Datasheet; ComponentLink2URL: http://www.analog.com/UploadedFiles/Data_Sheets/533994331AD539_a.pdf
footprint D-16_B (DIP; 16 Leads; Row Spacing 7.62 mm; Pitch 2.54 mm)
3D model D-16B (DIP; 16 Leads; Row Spacing 7.62 mm; Pitch 2.54 mm)
pins: 1 CTNL, 2 HF CMPEN, 3 CH1 IN (in), 4 +V (power), 5 V- (power), 6 CH2 IN (in), 7 IN COM, 8 OUT COM, 9 W2, 10 Z2, 11 CH2 OUT (out), 12 BASE COM, 13 BASE COM, 14 CH1 OUT (out), 15 Z1, 16 W1

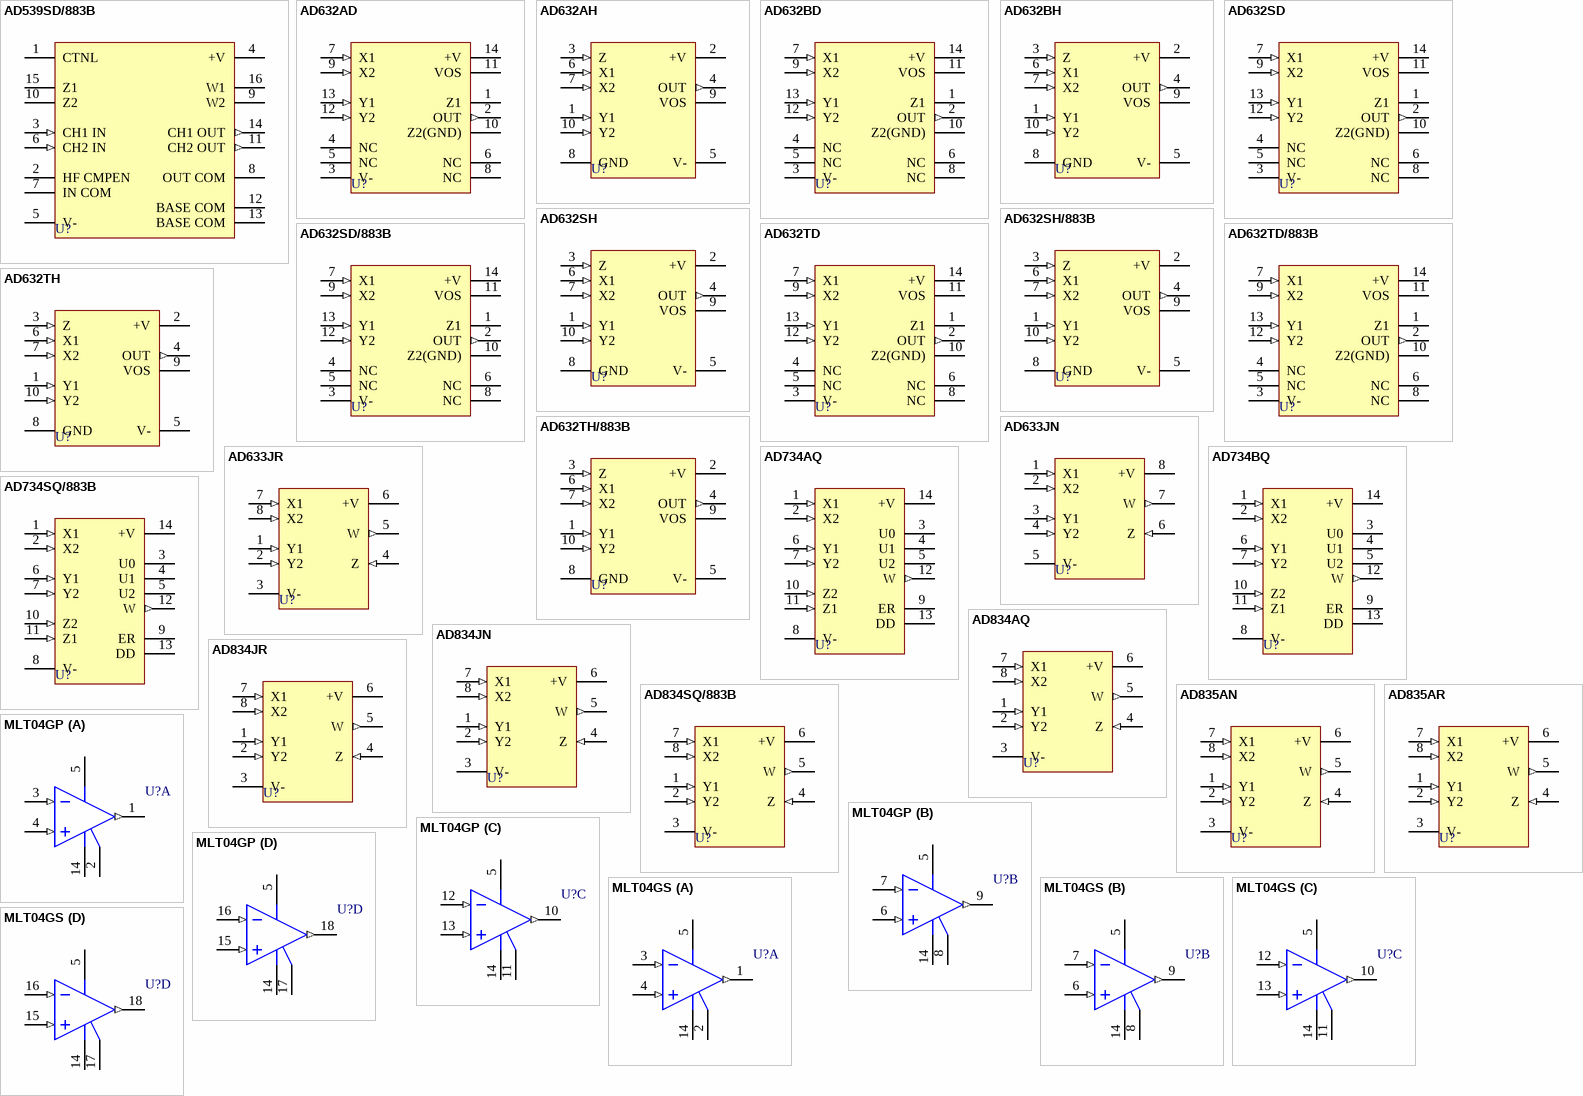
[diagram p1: symbols AD539SD/883B to MLT04GS]

## AD539SD/883B
designator U?
Wideband Dual-Channel Linear Multiplier/Divider; Published: 8-Jun-2000; LatestRevisionDate: 04-Mar-2005; LatestRevisionNote: Stylized 3D Model Added.; DatasheetVersion: REV.A 1998; PackageVersion: revB, 1996; PackageReference: D-16_B; Publisher: Altium Limited; PackageDescription: DIP; 16 Leads; Row Spacing 7.62 mm; Pitch 2.54 mm; ComponentLink1Description: Manufacturer Link; ComponentLink1URL: http://www.analog.com/en/prod/0%2C2877%2CAD539%2C00.html; ComponentLink2Description: Datasheet; ComponentLink2URL: http://www.analog.com/UploadedFiles/Data_Sheets/533994331AD539_a.pdf
footprint D-16_B (DIP; 16 Leads; Row Spacing 7.62 mm; Pitch 2.54 mm)
3D model D-16B (DIP; 16 Leads; Row Spacing 7.62 mm; Pitch 2.54 mm)
pins: 1 CTNL, 2 HF CMPEN, 3 CH1 IN (in), 4 +V (power), 5 V- (power), 6 CH2 IN (in), 7 IN COM, 8 OUT COM, 9 W2, 10 Z2, 11 CH2 OUT (out), 12 BASE COM, 13 BASE COM, 14 CH1 OUT (out), 15 Z1, 16 W1

## AD632AD
designator U?
Internally Trimmed Precision IC Multiplier; Note: Pins 4, 5, 6 and 8 are not connected; Published: 8-Jun-2000; LatestRevisionDate: 04-Mar-2005; LatestRevisionNote: Stylized 3D Model Added.; DatasheetVersion: REV.A 1997; PackageVersion: revA; PackageReference: D-14_B; Publisher: Altium Limited; PackageDescription: DIP; 14 Leads; Row Spacing 7.62 mm; Pitch 2.54 mm; ComponentLink1Description: Manufacturer Link; ComponentLink1URL: http://www.analog.com/en/prod/0%2C2877%2CAD632%2C00.html; ComponentLink2Description: Datasheet; ComponentLink2URL: http://www.analog.com/UploadedFiles/Data_Sheets/130123616AD632_a.pdf
footprint D-14_B (DIP; 14 Leads; Row Spacing 7.62 mm; Pitch 2.54 mm)
3D model D-14B (DIP; 14 Leads; Row Spacing 7.62 mm; Pitch 2.54 mm)
pins: 1 Z1, 2 OUT (out), 3 V- (power), 4 NC, 5 NC, 6 NC, 7 X1 (in), 8 NC, 9 X2 (in), 10 Z2(GND), 11 VOS, 12 Y2 (in), 13 Y1 (in), 14 +V (power)

## AD632AH
designator U?
Internally Trimmed Precision IC Multiplier; Published: 8-Jun-2000; LatestRevisionDate: 17-Jul-2002; LatestRevisionNote: Re-released for DXP Platform.; DatasheetVersion: REV.A 1997; PackageReference: H-10A; Publisher: Altium Limited; PackageDescription: Can; 10 Leads; Pin Circle Dia. 5.84 mm; Lead Dia. 0.53 mm (max); Code_JEDEC: TO-100; ComponentLink1Description: Manufacturer Link; ComponentLink1URL: http://www.analog.com/en/prod/0%2C2877%2CAD632%2C00.html; ComponentLink2Description: Datasheet; ComponentLink2URL: http://www.analog.com/UploadedFiles/Data_Sheets/130123616AD632_a.pdf
footprint H-10A (Can; 10 Leads; Pin Circle Dia. 5.84 mm; Lead Dia. 0.53 mm (max))
pins: 1 Y1 (in), 2 +V (power), 3 Z (in), 4 OUT (out), 5 V- (power), 6 X1 (in), 7 X2 (in), 8 GND (power), 9 VOS, 10 Y2 (in)

## AD632BD
designator U?
Internally Trimmed Precision IC Multiplier; Note: Pins 4, 5, 6 and 8 are not connected; Published: 8-Jun-2000; LatestRevisionDate: 04-Mar-2005; LatestRevisionNote: Stylized 3D Model Added.; DatasheetVersion: REV.A 1997; PackageVersion: revA; PackageReference: D-14_B; Publisher: Altium Limited; PackageDescription: DIP; 14 Leads; Row Spacing 7.62 mm; Pitch 2.54 mm; ComponentLink1Description: Manufacturer Link; ComponentLink1URL: http://www.analog.com/en/prod/0%2C2877%2CAD632%2C00.html; ComponentLink2Description: Datasheet; ComponentLink2URL: http://www.analog.com/UploadedFiles/Data_Sheets/130123616AD632_a.pdf
footprint D-14_B (DIP; 14 Leads; Row Spacing 7.62 mm; Pitch 2.54 mm)
3D model D-14B (DIP; 14 Leads; Row Spacing 7.62 mm; Pitch 2.54 mm)
pins: 1 Z1, 2 OUT (out), 3 V- (power), 4 NC, 5 NC, 6 NC, 7 X1 (in), 8 NC, 9 X2 (in), 10 Z2(GND), 11 VOS, 12 Y2 (in), 13 Y1 (in), 14 +V (power)

## AD632BH
designator U?
Internally Trimmed Precision IC Multiplier; Published: 8-Jun-2000; LatestRevisionDate: 17-Jul-2002; LatestRevisionNote: Re-released for DXP Platform.; DatasheetVersion: REV.A 1997; PackageReference: H-10A; Publisher: Altium Limited; PackageDescription: Can; 10 Leads; Pin Circle Dia. 5.84 mm; Lead Dia. 0.53 mm (max); Code_JEDEC: TO-100; ComponentLink1Description: Manufacturer Link; ComponentLink1URL: http://www.analog.com/en/prod/0%2C2877%2CAD632%2C00.html; ComponentLink2Description: Datasheet; ComponentLink2URL: http://www.analog.com/UploadedFiles/Data_Sheets/130123616AD632_a.pdf
footprint H-10A (Can; 10 Leads; Pin Circle Dia. 5.84 mm; Lead Dia. 0.53 mm (max))
pins: 1 Y1 (in), 2 +V (power), 3 Z (in), 4 OUT (out), 5 V- (power), 6 X1 (in), 7 X2 (in), 8 GND (power), 9 VOS, 10 Y2 (in)

## AD632SD
designator U?
Internally Trimmed Precision IC Multiplier; Note: Pins 4, 5, 6 and 8 are not connected; Published: 8-Jun-2000; LatestRevisionDate: 04-Mar-2005; LatestRevisionNote: Stylized 3D Model Added.; DatasheetVersion: REV.A 1997; PackageVersion: revA; PackageReference: D-14_B; Publisher: Altium Limited; PackageDescription: DIP; 14 Leads; Row Spacing 7.62 mm; Pitch 2.54 mm; ComponentLink1Description: Manufacturer Link; ComponentLink1URL: http://www.analog.com/en/prod/0%2C2877%2CAD632%2C00.html; ComponentLink2Description: Datasheet; ComponentLink2URL: http://www.analog.com/UploadedFiles/Data_Sheets/130123616AD632_a.pdf
footprint D-14_B (DIP; 14 Leads; Row Spacing 7.62 mm; Pitch 2.54 mm)
3D model D-14B (DIP; 14 Leads; Row Spacing 7.62 mm; Pitch 2.54 mm)
pins: 1 Z1, 2 OUT (out), 3 V- (power), 4 NC, 5 NC, 6 NC, 7 X1 (in), 8 NC, 9 X2 (in), 10 Z2(GND), 11 VOS, 12 Y2 (in), 13 Y1 (in), 14 +V (power)

## AD632SD/883B
designator U?
Internally Trimmed Precision IC Multiplier; Note: Pins 4, 5, 6 and 8 are not connected; Published: 8-Jun-2000; LatestRevisionDate: 04-Mar-2005; LatestRevisionNote: Stylized 3D Model Added.; DatasheetVersion: REV.A 1997; PackageVersion: revA; PackageReference: D-14_B; Publisher: Altium Limited; PackageDescription: DIP; 14 Leads; Row Spacing 7.62 mm; Pitch 2.54 mm; ComponentLink1Description: Manufacturer Link; ComponentLink1URL: http://www.analog.com/en/prod/0%2C2877%2CAD632%2C00.html; ComponentLink2Description: Datasheet; ComponentLink2URL: http://www.analog.com/UploadedFiles/Data_Sheets/130123616AD632_a.pdf
footprint D-14_B (DIP; 14 Leads; Row Spacing 7.62 mm; Pitch 2.54 mm)
3D model D-14B (DIP; 14 Leads; Row Spacing 7.62 mm; Pitch 2.54 mm)
pins: 1 Z1, 2 OUT (out), 3 V- (power), 4 NC, 5 NC, 6 NC, 7 X1 (in), 8 NC, 9 X2 (in), 10 Z2(GND), 11 VOS, 12 Y2 (in), 13 Y1 (in), 14 +V (power)

## AD632SH
designator U?
Internally Trimmed Precision IC Multiplier; Published: 8-Jun-2000; LatestRevisionDate: 17-Jul-2002; LatestRevisionNote: Re-released for DXP Platform.; DatasheetVersion: REV.A 1997; PackageReference: H-10A; Publisher: Altium Limited; PackageDescription: Can; 10 Leads; Pin Circle Dia. 5.84 mm; Lead Dia. 0.53 mm (max); Code_JEDEC: TO-100; ComponentLink1Description: Manufacturer Link; ComponentLink1URL: http://www.analog.com/en/prod/0%2C2877%2CAD632%2C00.html; ComponentLink2Description: Datasheet; ComponentLink2URL: http://www.analog.com/UploadedFiles/Data_Sheets/130123616AD632_a.pdf
footprint H-10A (Can; 10 Leads; Pin Circle Dia. 5.84 mm; Lead Dia. 0.53 mm (max))
pins: 1 Y1 (in), 2 +V (power), 3 Z (in), 4 OUT (out), 5 V- (power), 6 X1 (in), 7 X2 (in), 8 GND (power), 9 VOS, 10 Y2 (in)

## AD632SH/883B
designator U?
Internally Trimmed Precision IC Multiplier; Published: 8-Jun-2000; LatestRevisionDate: 17-Jul-2002; LatestRevisionNote: Re-released for DXP Platform.; DatasheetVersion: REV.A 1997; PackageReference: H-10A; Publisher: Altium Limited; PackageDescription: Can; 10 Leads; Pin Circle Dia. 5.84 mm; Lead Dia. 0.53 mm (max); Code_JEDEC: TO-100; ComponentLink1Description: Manufacturer Link; ComponentLink1URL: http://www.analog.com/en/prod/0%2C2877%2CAD632%2C00.html; ComponentLink2Description: Datasheet; ComponentLink2URL: http://www.analog.com/UploadedFiles/Data_Sheets/130123616AD632_a.pdf
footprint H-10A (Can; 10 Leads; Pin Circle Dia. 5.84 mm; Lead Dia. 0.53 mm (max))
pins: 1 Y1 (in), 2 +V (power), 3 Z (in), 4 OUT (out), 5 V- (power), 6 X1 (in), 7 X2 (in), 8 GND (power), 9 VOS, 10 Y2 (in)

## AD632TD
designator U?
Internally Trimmed Precision IC Multiplier; Note: Pins 4, 5, 6 and 8 are not connected; Published: 8-Jun-2000; LatestRevisionDate: 04-Mar-2005; LatestRevisionNote: Stylized 3D Model Added.; DatasheetVersion: REV.A 1997; PackageVersion: revA; PackageReference: D-14_B; Publisher: Altium Limited; PackageDescription: DIP; 14 Leads; Row Spacing 7.62 mm; Pitch 2.54 mm; ComponentLink1Description: Manufacturer Link; ComponentLink1URL: http://www.analog.com/en/prod/0%2C2877%2CAD632%2C00.html; ComponentLink2Description: Datasheet; ComponentLink2URL: http://www.analog.com/UploadedFiles/Data_Sheets/130123616AD632_a.pdf
footprint D-14_B (DIP; 14 Leads; Row Spacing 7.62 mm; Pitch 2.54 mm)
3D model D-14B (DIP; 14 Leads; Row Spacing 7.62 mm; Pitch 2.54 mm)
pins: 1 Z1, 2 OUT (out), 3 V- (power), 4 NC, 5 NC, 6 NC, 7 X1 (in), 8 NC, 9 X2 (in), 10 Z2(GND), 11 VOS, 12 Y2 (in), 13 Y1 (in), 14 +V (power)

## AD632TD/883B
designator U?
Internally Trimmed Precision IC Multiplier; Note: Pins 4, 5, 6 and 8 are not connected; Published: 8-Jun-2000; LatestRevisionDate: 04-Mar-2005; LatestRevisionNote: Stylized 3D Model Added.; DatasheetVersion: REV.A 1997; PackageVersion: revA; PackageReference: D-14_B; Publisher: Altium Limited; PackageDescription: DIP; 14 Leads; Row Spacing 7.62 mm; Pitch 2.54 mm; ComponentLink1Description: Manufacturer Link; ComponentLink1URL: http://www.analog.com/en/prod/0%2C2877%2CAD632%2C00.html; ComponentLink2Description: Datasheet; ComponentLink2URL: http://www.analog.com/UploadedFiles/Data_Sheets/130123616AD632_a.pdf
footprint D-14_B (DIP; 14 Leads; Row Spacing 7.62 mm; Pitch 2.54 mm)
3D model D-14B (DIP; 14 Leads; Row Spacing 7.62 mm; Pitch 2.54 mm)
pins: 1 Z1, 2 OUT (out), 3 V- (power), 4 NC, 5 NC, 6 NC, 7 X1 (in), 8 NC, 9 X2 (in), 10 Z2(GND), 11 VOS, 12 Y2 (in), 13 Y1 (in), 14 +V (power)

## AD632TH
designator U?
Internally Trimmed Precision IC Multiplier; Published: 8-Jun-2000; LatestRevisionDate: 17-Jul-2002; LatestRevisionNote: Re-released for DXP Platform.; DatasheetVersion: REV.A 1997; PackageReference: H-10A; Publisher: Altium Limited; PackageDescription: Can; 10 Leads; Pin Circle Dia. 5.84 mm; Lead Dia. 0.53 mm (max); Code_JEDEC: TO-100; ComponentLink1Description: Manufacturer Link; ComponentLink1URL: http://www.analog.com/en/prod/0%2C2877%2CAD632%2C00.html; ComponentLink2Description: Datasheet; ComponentLink2URL: http://www.analog.com/UploadedFiles/Data_Sheets/130123616AD632_a.pdf
footprint H-10A (Can; 10 Leads; Pin Circle Dia. 5.84 mm; Lead Dia. 0.53 mm (max))
pins: 1 Y1 (in), 2 +V (power), 3 Z (in), 4 OUT (out), 5 V- (power), 6 X1 (in), 7 X2 (in), 8 GND (power), 9 VOS, 10 Y2 (in)

## AD632TH/883B
designator U?
Internally Trimmed Precision IC Multiplier; Published: 8-Jun-2000; LatestRevisionDate: 17-Jul-2002; LatestRevisionNote: Re-released for DXP Platform.; DatasheetVersion: REV.A 1997; PackageReference: H-10A; Publisher: Altium Limited; PackageDescription: Can; 10 Leads; Pin Circle Dia. 5.84 mm; Lead Dia. 0.53 mm (max); Code_JEDEC: TO-100; ComponentLink1Description: Manufacturer Link; ComponentLink1URL: http://www.analog.com/en/prod/0%2C2877%2CAD632%2C00.html; ComponentLink2Description: Datasheet; ComponentLink2URL: http://www.analog.com/UploadedFiles/Data_Sheets/130123616AD632_a.pdf
footprint H-10A (Can; 10 Leads; Pin Circle Dia. 5.84 mm; Lead Dia. 0.53 mm (max))
pins: 1 Y1 (in), 2 +V (power), 3 Z (in), 4 OUT (out), 5 V- (power), 6 X1 (in), 7 X2 (in), 8 GND (power), 9 VOS, 10 Y2 (in)

## AD633JN
designator U?
Low-Cost Analog Multiplier; Published: 8-Jun-2000; LatestRevisionDate: 04-Mar-2005; LatestRevisionNote: Stylized 3D Model Added.; DatasheetVersion: REV.A 1998; PackageVersion: revA; PackageReference: N-8; Publisher: Altium Limited; PackageDescription: DIP; 8 Leads; Row Spacing 7.62 mm; Pitch 2.54 mm; ComponentLink1Description: Manufacturer Link; ComponentLink1URL: http://www.analog.com/en/prod/0%2C2877%2CAD633%2C00.html; ComponentLink2Description: Datasheet; ComponentLink2URL: http://www.analog.com/UploadedFiles/Data_Sheets/277093686AD633_e.pdf
footprint N-8 (DIP; 8 Leads; Row Spacing 7.62 mm; Pitch 2.54 mm)
3D model Q-8 (DIP; 8 Leads; Row Spacing 7.62 mm; Pitch 2.54 mm)
simulation model AD633J (SUBCKT)
pins: 1 X1 (in), 2 X2 (in), 3 Y1 (in), 4 Y2 (in), 5 V- (power), 6 Z (in), 7 W (out), 8 +V (power)

## AD633JR
designator U?
Low-Cost Analog Multiplier; Published: 8-Jun-2000; LatestRevisionDate: 13-Apr-2006; LatestRevisionNote: IPC-7351 Footprint Added.; DatasheetVersion: REV.A 1998; PackageVersion: 2005; PackageReference: R-8; Publisher: Altium Limited; PackageDescription: 8-Pin Narrow Body Small Outline Integrated Circuit 1.27 mm Pitch; Code_JEDEC: MS-012-AA; Code_IPC: SOIC127P600-8; ComponentLink1Description: Manufacturer Link; ComponentLink1URL: http://www.analog.com/en/prod/0%2C2877%2CAD633%2C00.html; ComponentLink2Description: Datasheet; ComponentLink2URL: http://www.analog.com/UploadedFiles/Data_Sheets/277093686AD633_e.pdf
footprint R-8_N (SOIC, 8-Leads, Body 4.9x3.9mm, Pitch 1.27mm, IPC Medium Density)
footprint R-8_L (SOIC, 8-Leads, Body 4.9x3.9mm, Pitch 1.27mm, IPC High Density)
footprint R-8_M (SOIC, 8-Leads, Body 4.9x3.9mm, Pitch 1.27mm, IPC Low Density)
3D model R-8 (8-Pin Narrow Body Small Outline Integrated Circuit 1.27 mm Pitch)
simulation model AD633J (SUBCKT)
pins: 1 Y1 (in), 2 Y2 (in), 3 V- (power), 4 Z (in), 5 W (out), 6 +V (power), 7 X1 (in), 8 X2 (in)

## AD734AQ
designator U?
10MHz, 4-Quadrant Multiplier/Divider; Published: 8-Jun-2000; LatestRevisionDate: 04-Mar-2005; LatestRevisionNote: Stylized 3D Model Added.; DatasheetVersion: REV.B 1998; PackageVersion: revB; PackageReference: Q-14; Publisher: Altium Limited; PackageDescription: DIP; 14 Leads; Row Spacing 7.62 mm; Pitch 2.54 mm; ComponentLink1Description: Manufacturer Link; ComponentLink1URL: http://www.analog.com/en/prod/0%2C2877%2CAD734%2C00.html; ComponentLink2Description: Datasheet; ComponentLink2URL: http://www.analog.com/UploadedFiles/Data_Sheets/66167428AD734_c.pdf
footprint Q-14 (DIP; 14 Leads; Row Spacing 7.62 mm; Pitch 2.54 mm)
3D model Q-14 (DIP; 14 Leads; Row Spacing 7.62 mm; Pitch 2.54 mm)
simulation model AD734A (SUBCKT)
pins: 1 X1 (in), 2 X2 (in), 3 U0, 4 U1, 5 U2, 6 Y1 (in), 7 Y2 (in), 8 V- (power), 9 ER, 10 Z2 (in), 11 Z1 (in), 12 W (out), 13 DD, 14 +V (power)

## AD734BQ
designator U?
10MHz, 4-Quadrant Multiplier/Divider; Published: 8-Jun-2000; LatestRevisionDate: 04-Mar-2005; LatestRevisionNote: Stylized 3D Model Added.; DatasheetVersion: REV.B 1998; PackageVersion: revB; PackageReference: Q-14; Publisher: Altium Limited; PackageDescription: DIP; 14 Leads; Row Spacing 7.62 mm; Pitch 2.54 mm; ComponentLink1Description: Manufacturer Link; ComponentLink1URL: http://www.analog.com/en/prod/0%2C2877%2CAD734%2C00.html; ComponentLink2Description: Datasheet; ComponentLink2URL: http://www.analog.com/UploadedFiles/Data_Sheets/66167428AD734_c.pdf
footprint Q-14 (DIP; 14 Leads; Row Spacing 7.62 mm; Pitch 2.54 mm)
3D model Q-14 (DIP; 14 Leads; Row Spacing 7.62 mm; Pitch 2.54 mm)
simulation model AD734B (SUBCKT)
pins: 1 X1 (in), 2 X2 (in), 3 U0, 4 U1, 5 U2, 6 Y1 (in), 7 Y2 (in), 8 V- (power), 9 ER, 10 Z2 (in), 11 Z1 (in), 12 W (out), 13 DD, 14 +V (power)

## AD734SQ/883B
designator U?
10MHz, 4-Quadrant Multiplier/Divider; Published: 8-Jun-2000; LatestRevisionDate: 04-Mar-2005; LatestRevisionNote: Stylized 3D Model Added.; DatasheetVersion: REV.B 1998; PackageVersion: revB; PackageReference: Q-14; Publisher: Altium Limited; PackageDescription: DIP; 14 Leads; Row Spacing 7.62 mm; Pitch 2.54 mm; ComponentLink1Description: Manufacturer Link; ComponentLink1URL: http://www.analog.com/en/prod/0%2C2877%2CAD734%2C00.html; ComponentLink2Description: Datasheet; ComponentLink2URL: http://www.analog.com/UploadedFiles/Data_Sheets/66167428AD734_c.pdf
footprint Q-14 (DIP; 14 Leads; Row Spacing 7.62 mm; Pitch 2.54 mm)
3D model Q-14 (DIP; 14 Leads; Row Spacing 7.62 mm; Pitch 2.54 mm)
simulation model AD734S (SUBCKT)
pins: 1 X1 (in), 2 X2 (in), 3 U0, 4 U1, 5 U2, 6 Y1 (in), 7 Y2 (in), 8 V- (power), 9 ER, 10 Z2 (in), 11 Z1 (in), 12 W (out), 13 DD, 14 +V (power)

## AD834AQ
designator U?
500MHz Four-Quadrant Multiplier; Published: 8-Jun-2000; LatestRevisionDate: 04-Mar-2005; LatestRevisionNote: Stylized 3D Model Added.; DatasheetVersion: REV.B 1998; PackageVersion: 1998; PackageReference: Q-8; Publisher: Altium Limited; PackageDescription: DIP; 8 Leads; Row Spacing 7.62 mm; Pitch 2.54 mm; ComponentLink1Description: Manufacturer Link; ComponentLink1URL: http://www.analog.com/en/prod/0%2C2877%2CAD834%2C00.html; ComponentLink2Description: Datasheet; ComponentLink2URL: http://www.analog.com/UploadedFiles/Data_Sheets/99678087AD834_d.pdf
footprint Q-8 (DIP; 8 Leads; Row Spacing 7.62 mm; Pitch 2.54 mm)
3D model Q-8 (DIP; 8 Leads; Row Spacing 7.62 mm; Pitch 2.54 mm)
pins: 1 Y1 (in), 2 Y2 (in), 3 V- (power), 4 Z (in), 5 W (out), 6 +V (power), 7 X1 (in), 8 X2 (in)